# EAGLE library part LL1540 (library lundahl)
LL1540 Transformer
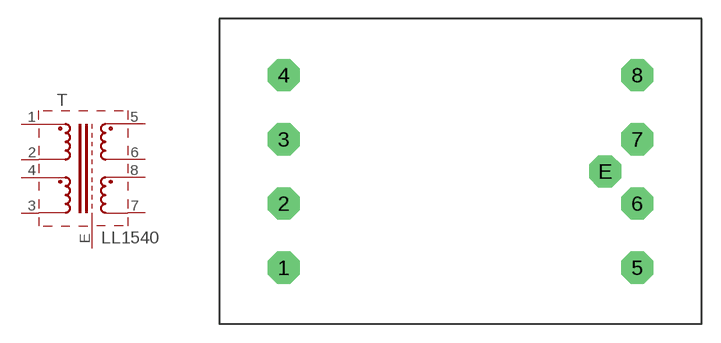
[diagram p18: symbol with the pads of LL1540; footprint LL1540]

Designator prefix T

## LL1540  [LL1540]
1  1  pas
2  2  pas
3  3  pas
4  4  pas
5  5  pas
6  6  pas
7  7  pas
8  8  pas
E  E  pas

## Footprint LL1540 (pad centres in mm)
LL1540
drill 1.27 pad 2.54 octagon: 1 -13.335,-7.62; 2 -13.335,-2.54; 3 -13.335,2.54; 4 -13.335,7.62; 5 14.605,-7.62; 6 14.605,-2.54; 7 14.605,2.54; 8 14.605,7.62; E 12.065,0